# Altium footprint library SOT-457.PcbLib: 1 footprints
Each footprint in its own frame and in the unit in brackets; x right, y up, seen from the top. Pads: shape width x height; smd on the part's side, far side on the other; paste and mask are expansions set on the pad; w line width, h text height; cw(c..) or ccw(c..) is an arc to the next point about the centre after c.
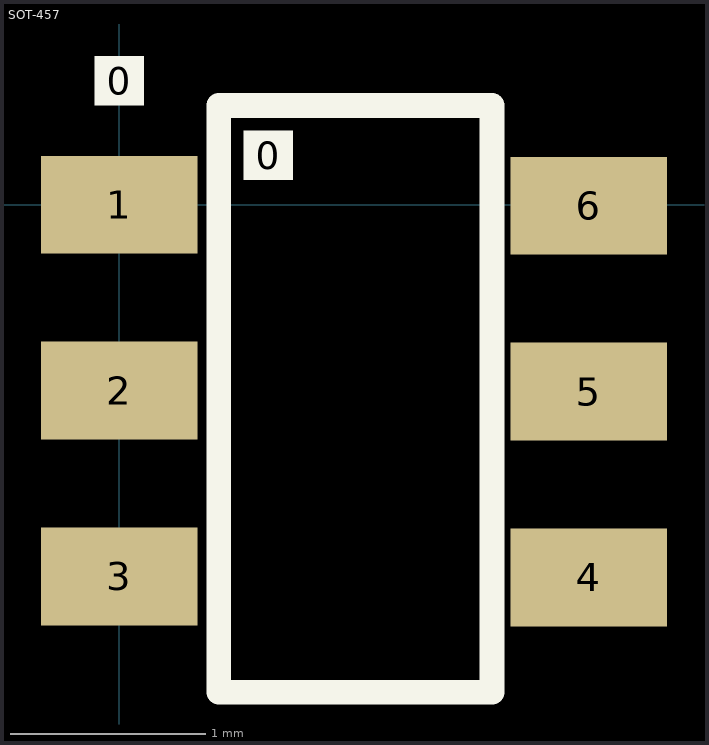
[diagram p0: the footprint, top view; thin cyan lines are the x and y axes]

## SOT-457 [mm]
pads (8):
  rect 0.254x0.254 on Top Overlay: 0(0,0.635) 0(0.762,0.254)
  rect 0.8x0.5 smd: 1(0,0) 2(0,-0.95) 3(0,-1.9) 4(2.4,-1.905) 5(2.4,-0.955) 6(2.4,-0.005)
Top Overlay:
  lines w0.127: 0.508,-2.492 1.905,-2.492 1.905,0.508 0.508,0.508 0.508,-2.492